# EAGLE library part STDS75 (library st-microelectronics_martin)
Digital Thermometer and Thermostat Source: http://pdfserv.maxim-ic.com/en/ds/DS1621.pdf
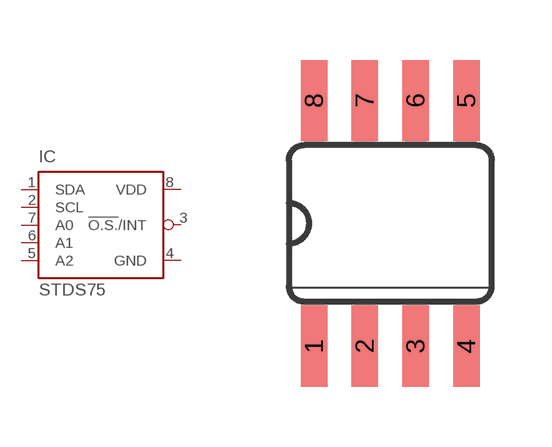
[diagram p2: symbol with the pads of SO08; footprint SO08]

Designator prefix IC

## STDS75M2F  [SO08]
1  SDA
2  SCL  in
3  !O.S.!/INT  out
4  GND  pwr
5  A2  in
6  A1  in
7  A0  in
8  VDD  pwr

## Footprint SO08 (pad centres in mm)
Small Outline Package SOIC 150 mil
smd 0.66 x 2.032: 1 -1.905,-3.073; 2 -0.635,-3.073; 3 0.635,-3.073; 4 1.905,-3.073; 5 1.905,3.073; 6 0.635,3.073; 7 -0.635,3.073; 8 -1.905,3.073